# Altium footprint library others.PcbLib: 82 footprints (part 3 of 6)
Each footprint in its own frame and in the unit in brackets; x right, y up, seen from the top. Pads: shape width x height; smd on the part's side, far side on the other; paste and mask are expansions set on the pad; w line width, h text height; cw(c..) or ccw(c..) is an arc to the next point about the centre after c.
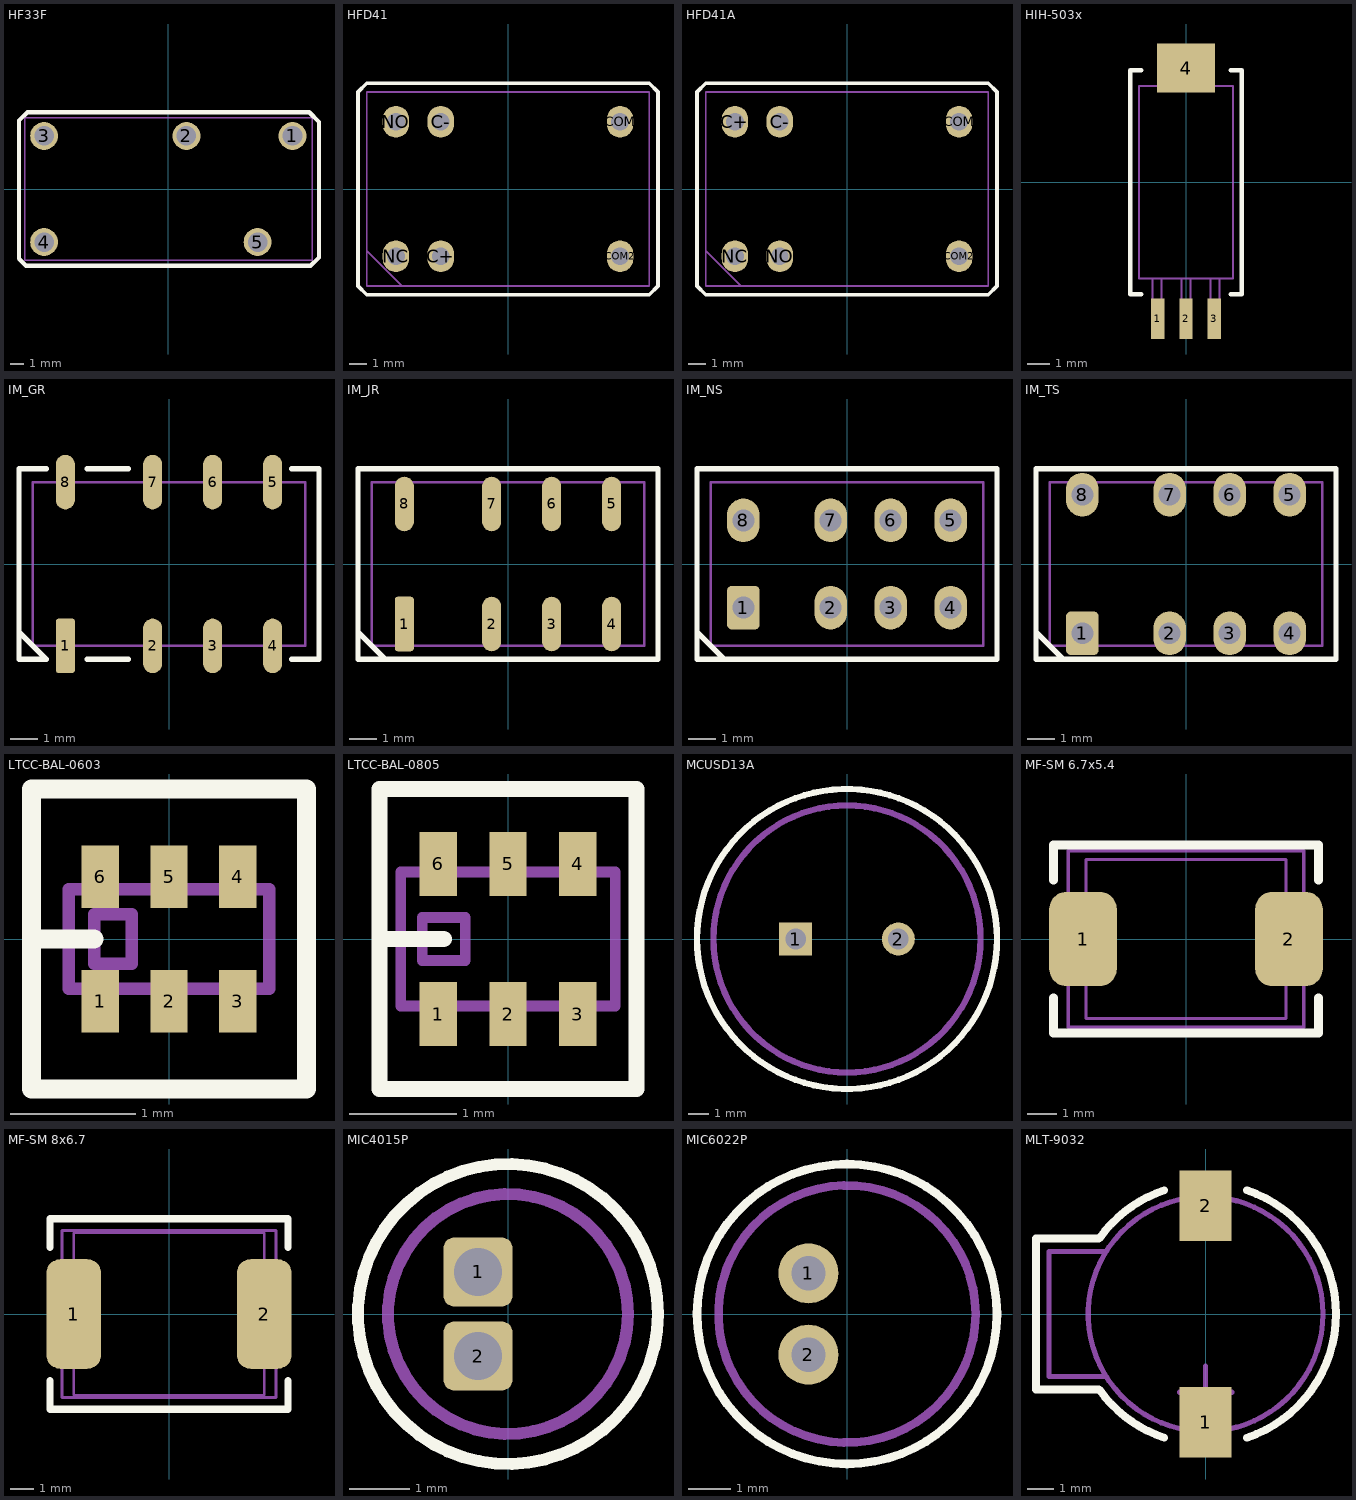
[diagram p2: the footprints below, top view; thin cyan lines are the x and y axes]

## HF33F [mm]
height 16
pads (5):
  round 2 hole 1.4: 1(8.9,3.8) 2(1.3,3.8) 3(-8.9,3.8) 4(-8.9,-3.8) 5(6.4,-3.8)
Top Overlay:
  lines w0.3: -10.7,-5 -10.2,-5.5 10.2,-5.5 10.8,-4.9 10.8,4.8 10.1,5.5 -10.1,5.5 -10.7,4.9 -10.7,-5
Mechanical 1:
  lines w0.1: -10.3,-5.1 -10.3,5.1 10.3,5.1 10.3,-5.1 -10.3,-5.1
3D body: height 15.7, standoff 0.4, extent -10.312,-5.112 10.31,5.106

## HFD41 [mm]
height 12
pads (6):
  oval 1.5x1.8 hole 1: C+(-3.81,-3.81) C-(-3.81,3.81) COM(6.35,3.81) COM2(6.35,-3.81) NC(-6.35,-3.81) NO(-6.35,3.81)
Top Overlay:
  lines w0.2: -8.5,-5.5 -8.5,5.5 -8,6 8,6 8.5,5.5 8.5,-5.5 8,-6 -8,-6 -8.5,-5.5
Mechanical 1:
  lines w0.1: -8,-3.5 -6,-5.5 ; -8,-5.5 8,-5.5 8,5.5 -8,5.5 -8,-5.5
3D body: height 11.8, standoff 0.2, extent -8.01,-5.51 8.01,5.51
3D body: height 1, standoff -3, extent -6.648,3.51 -6.05,4.109
3D body: height 1, standoff -3, extent -4.108,3.51 -3.51,4.109
3D body: height 1, standoff -3, extent 6.052,3.51 6.65,4.109
3D body: height 1, standoff -3, extent -6.648,-4.11 -6.05,-3.511
3D body: height 1, standoff -3, extent -4.108,-4.11 -3.51,-3.511
3D body: height 1, standoff -3, extent 6.052,-4.11 6.65,-3.511

## HFD41A [mm]
height 12
pads (6):
  oval 1.5x1.8 hole 1: C+(-6.35,3.81) C-(-3.81,3.81) COM(6.35,3.81) COM2(6.35,-3.81) NC(-6.35,-3.81) NO(-3.81,-3.81)
Top Overlay:
  lines w0.2: -8.5,-5.5 -8,-6 8,-6 8.5,-5.5 8.5,5.5 8,6 -8,6 -8.5,5.5 -8.5,-5.5
Mechanical 1:
  lines w0.1: -8,-3.5 -6,-5.5 ; -8,-5.5 -8,5.5 8,5.5 8,-5.5 -8,-5.5
3D body: height 1, standoff -3, extent 6.052,-4.11 6.65,-3.511
3D body: height 1, standoff -3, extent -4.108,-4.11 -3.51,-3.511
3D body: height 1, standoff -3, extent -6.648,-4.11 -6.05,-3.511
3D body: height 1, standoff -3, extent 6.052,3.51 6.65,4.109
3D body: height 1, standoff -3, extent -4.108,3.51 -3.51,4.109
3D body: height 1, standoff -3, extent -6.648,3.51 -6.05,4.109
3D body: height 11.8, standoff 0.2, extent -8.01,-5.51 8.01,5.51

## HIH-503x [mm]
height 3
pads (4):
  rect 0.6x1.8 smd: 1(-1.27,-6.1) 2(0,-6.1) 3(1.27,-6.1)
  rect 2.6x2.2 smd: 4(0,5.1)
Top Overlay:
  lines w0.2: -2,-5 -2.5,-5 -2.5,5 -2,5 ; 2,-5 2.5,-5 2.5,5 2,5
Mechanical 1:
  lines w0.1: -1.5,-4.3 -1.5,-6.8 -1.1,-6.8 -1.1,-4.3 ; -0.6,4.3 -0.6,5.075 -1.1,5.2 -1.1,6.1 1.1,6.1 1.1,5.2 0.6,5.075 0.6,4.3 ; -0.2,-4.3 -0.2,-6.8 0.2,-6.8 0.2,-4.3 ; 1.1,-4.3 1.1,-6.8 1.5,-6.8 1.5,-4.3 ; -2.1,-4.3 2.1,-4.3 2.1,4.3 -2.1,4.3 -2.1,-4.3
3D body: height 3, standoff 0.2, extent -2.1,-4.3 2.1,4.3

## IM_GR [mm] "Relay signal"
height 5.6
pads (8):
  rrect30% 0.7x2 smd: 1(-3.8,-3)
  rrect100% 0.7x2 smd: 2(-0.6,-3) 3(1.6,-3) 4(3.8,-3) 5(3.8,3) 6(1.6,3) 7(-0.6,3) 8(-3.8,3)
Top Overlay:
  lines w0.2: -5.5,-2.5 -4.5,-3.5 -5.5,-3.5 -5.5,3.5 -4.5,3.5 ; -3,-3.5 -1.5,-3.5 ; -3,3.5 -1.5,3.5 ; 4.5,-3.5 5.5,-3.5 5.5,3.5 4.5,3.5
Mechanical 1:
  lines w0.1: -5,-3 -5,3 5,3 5,-3 -5,-3
3D body: height 5.6, standoff 0.5, extent -5,-3 5,3

## IM_JR [mm] "Relay signal"
height 5.6
pads (8):
  rrect30% 0.7x2 smd: 1(-3.8,-2.2)
  rrect100% 0.7x2 smd: 2(-0.6,-2.2) 3(1.6,-2.2) 4(3.8,-2.2) 5(3.8,2.2) 6(1.6,2.2) 7(-0.6,2.2) 8(-3.8,2.2)
Top Overlay:
  lines w0.2: -5.5,-2.5 -4.5,-3.5 ; -5.5,-3.5 5.5,-3.5 5.5,3.5 -5.5,3.5 -5.5,-3.5
Mechanical 1:
  lines w0.1: -5,-3 -5,3 5,3 5,-3 -5,-3
3D body: height 5.6, standoff 0.5, extent -5,-3 5,3

## IM_NS [mm] "Relay signal"
height 5.6
pads (8):
  rrect30% 1.2x1.6 hole 0.8 unplated: 1(-3.8,-1.6)
  oval 1.2x1.6 hole 0.8 unplated: 2(-0.6,-1.6) 3(1.6,-1.6) 4(3.8,-1.6) 5(3.8,1.6) 6(1.6,1.6) 7(-0.6,1.6) 8(-3.8,1.6)
Top Overlay:
  lines w0.2: -5.5,-2.5 -4.5,-3.5 ; -5.5,-3.5 -5.5,3.5 5.5,3.5 5.5,-3.5 -5.5,-3.5
Mechanical 1:
  lines w0.1: -5,-3 5,-3 5,3 -5,3 -5,-3
3D body: height 5.6, standoff 0.5, extent -5,-3 5,3

## IM_TS [mm] "Relay signal"
height 5.6
pads (8):
  rrect30% 1.2x1.6 hole 0.8 unplated: 1(-3.8,-2.54)
  oval 1.2x1.6 hole 0.8 unplated: 2(-0.6,-2.54) 3(1.6,-2.54) 4(3.8,-2.54) 5(3.8,2.54) 6(1.6,2.54) 7(-0.6,2.54) 8(-3.8,2.54)
Top Overlay:
  lines w0.2: -5.5,-2.5 -4.5,-3.5 ; -5.5,-3.5 5.5,-3.5 5.5,3.5 -5.5,3.5 -5.5,-3.5
Mechanical 1:
  lines w0.1: -5,-3 -5,3 5,3 5,-3 -5,-3
3D body: height 5.6, standoff 0.5, extent -5,-3 5,3

## LTCC-BAL-0603 [mm] "LTCC balun 0.8x1.6"
height 0.6
pads (6):
  rect 0.3x0.5 smd: 1(-0.55,-0.5) 2(0,-0.5) 3(0.55,-0.5) 4(0.55,0.5) 5(0,0.5) 6(-0.55,0.5)
Top Overlay:
  lines w0.15: -1.1,0 -0.6,0 ; -1.1,-1.2 -1.1,1.2 1.1,1.2 1.1,-1.2 -1.1,-1.2
Mechanical 1:
  lines w0.1: -0.8,-0.4 -0.8,0.4 0.8,0.4 0.8,-0.4 -0.8,-0.4 ; -0.6,-0.2 -0.6,0.2 -0.3,0.2 -0.3,-0.2 -0.6,-0.2
3D body: height 0.7, standoff 0, extent -0.15,-0.5 0.15,-0.3
3D body: height 0.7, standoff 0, extent -0.15,0.3 0.15,0.5
3D body: height 0.7, standoff 0, extent 0.4,0.3 0.7,0.5
3D body: height 0.7, standoff 0, extent 0.4,-0.5 0.7,-0.3
3D body: height 0.7, standoff 0, extent -0.7,-0.5 -0.4,-0.3
3D body: height 0.7, standoff 0, extent -0.7,0.3 -0.4,0.5
3D body: height 0.6, standoff 0.05, extent -0.8,-0.4 0.8,0.4
3D body: height 0.7, standoff 0.5, extent -0.7,-0.2 -0.3,0.2

## LTCC-BAL-0805 [mm] "LTCC balun 1.25x2"
height 1
pads (6):
  rect 0.35x0.6 smd: 1(-0.65,-0.7) 2(0,-0.7) 3(0.65,-0.7) 4(0.65,0.7) 5(0,0.7) 6(-0.65,0.7)
Top Overlay:
  lines w0.15: -1.2,0 -0.6,0 ; -1.2,-1.4 1.2,-1.4 1.2,1.4 -1.2,1.4 -1.2,-1.4
Mechanical 1:
  lines w0.1: -1,-0.625 1,-0.625 1,0.625 -1,0.625 -1,-0.625 ; -0.8,-0.2 -0.4,-0.2 -0.4,0.2 -0.8,0.2 -0.8,-0.2
3D body: height 1.1, standoff 0.5, extent -0.7,-0.2 -0.3,0.2
3D body: height 1.1, standoff 0, extent 0.4,-0.7 0.8,-0.4
3D body: height 1.1, standoff 0, extent -0.2,-0.7 0.2,-0.4
3D body: height 1.1, standoff 0, extent -0.8,-0.7 -0.4,-0.4
3D body: height 1.1, standoff 0, extent -0.8,0.4 -0.4,0.7
3D body: height 1.1, standoff 0, extent 0.4,0.4 0.8,0.7
3D body: height 1.1, standoff 0, extent -0.2,0.4 0.2,0.7
3D body: height 1, standoff 0.05, extent -1,-0.6 1,0.6

## MCUSD13A [mm]
height 9
pads (2):
  rect 1.6x1.6 hole 1: 1(-2.5,0)
  round 1.6 hole 1: 2(2.5,0)
Top Overlay:
  circle w0.3: c0,0 r7.3
Mechanical 1:
  circle w0.3: c0,0 r6.5
3D body: height 3, standoff -3, extent -2.798,-0.299 -2.2,0.299
3D body: height 8, standoff 1, extent -6.493,-6.498 6.5,6.498
3D body: height 10, standoff 8, extent -6.493,-6.498 6.5,6.498
3D body: height 4, standoff -2, extent 2.202,-0.299 2.8,0.299

## MF-SM 6.7x5.4 [mm] "PTC fuse"
height 3.2
pads (2):
  rrect50% 2.3x3.2 smd: 1(-3.5,0) 2(3.5,0)
Top Overlay:
  lines w0.3: -4.5,-2 -4.5,-3.2 4.5,-3.2 4.5,-2 ; -4.5,2 -4.5,3.2 4.5,3.2 4.5,2
Mechanical 1:
  lines w0.1: -3.4,-2.7 -3.4,2.7 3.4,2.7 3.4,-2.7 -3.4,-2.7
Mechanical 5:
  lines w0.127: -4,-3 -4,3 4,3 4,-3 -4,-3
  text ".Designator" at -1.5,-1 h1.5
Mechanical 6:
  lines w0.127: -4,-3 4,-3 4,3 -4,3 -4,-3
  text ".Comment" at -1.5,-0.5 h1.5
3D body: height 3.2, standoff 0.1, extent -3.4,-2.7 3.4,2.7

## MF-SM 8x6.7 [mm] "PTC fuse"
height 3.2
pads (2):
  rrect50% 2.3x4.6 smd: 1(-4,0) 2(4,0)
Top Overlay:
  lines w0.3: -5,-2.8 -5,-4 5,-4 5,-2.8 ; -5,2.8 -5,4 5,4 5,2.8
Mechanical 1:
  lines w0.1: -4,-3.4 4,-3.4 4,3.4 -4,3.4 -4,-3.4
Mechanical 5:
  lines w0.127: -4.5,-3.5 4.5,-3.5 4.5,3.5 -4.5,3.5 -4.5,-3.5
  text ".Designator" at -1.5,-1 h1.5
Mechanical 6:
  lines w0.127: -4.5,-3.5 -4.5,3.5 4.5,3.5 4.5,-3.5 -4.5,-3.5
  text ".Comment" at -1.5,-0.5 h1.5
3D body: height 3.2, standoff 0.1, extent -4,-3.4 4,3.4

## MIC4015P [mm]
height 1.8
pads (2):
  rrect30% 1.15x1.15 hole 0.8: 1(-0.5,0.7) 2(-0.5,-0.7)
Top Overlay:
  circle w0.2: c0,0 r2.5
Mechanical 1:
  circle w0.2: c0,0 r2
3D body: height 0.2, standoff -2.8, extent -0.798,0.4 -0.2,1
3D body: height 0.2, standoff -2.8, extent -0.799,-1 -0.2,-0.4
3D body: height 1.8, standoff 1.4, extent -1.798,-1.8 1.8,1.8
3D body: height 1.5, standoff 0, extent -1.998,-1.999 2,1.999

## MIC6022P [mm]
height 2.5
pads (2):
  round 1.4 hole 0.8: 1(-0.9,0.95) 2(-0.9,-0.95)
Top Overlay:
  circle w0.2: c0,0 r3.5
Mechanical 1:
  circle w0.2: c0,0 r3
3D body: height 2.2, standoff 0, extent -2.997,-2.999 3,2.999
3D body: height 2.5, standoff 2.1, extent -2.697,-2.699 2.7,2.699
3D body: height 0.2, standoff -2.8, extent -1.198,-1.25 -0.6,-0.65
3D body: height 0.2, standoff -2.8, extent -1.198,0.65 -0.6,1.25

## MLT-9032 [mm] "SMD buzzer"
height 3.2
pads (2):
  rect 2x2.7 smd: 1(0,-4.15) 2(0,4.15)
Top Overlay:
  lines w0.3: -4.1,-2.9 -6.5,-2.9 -6.5,2.9 -4.1,2.9 ; -4.062,-2.916 ccw(c0,0) -1.581,-4.743 ; -4.062,2.916 cw(c0,0) -1.581,4.743 ; 1.581,-4.743 ccw(c0,0) 1.581,4.743
Mechanical 1:
  circle w0.2: c0,0 r4.5
  lines w0.2: -3.8,-2.4 -6,-2.4 -6,2.4 -3.8,2.4 ; -1,-3 1,-3 ; 0,-4 0,-2
3D body: height 3, standoff 0.2, extent -6,-2.4 -3,2.4
3D body: height 3.2, standoff 0, extent -4.495,-4.499 4.5,4.499